# Altium footprint library External_Target_SWD.PcbLib: 1 footprints
Each footprint in its own frame and in the unit in brackets; x right, y up, seen from the top. Pads: shape width x height; smd on the part's side, far side on the other; paste and mask are expansions set on the pad; w line width, h text height; cw(c..) or ccw(c..) is an arc to the next point about the centre after c.
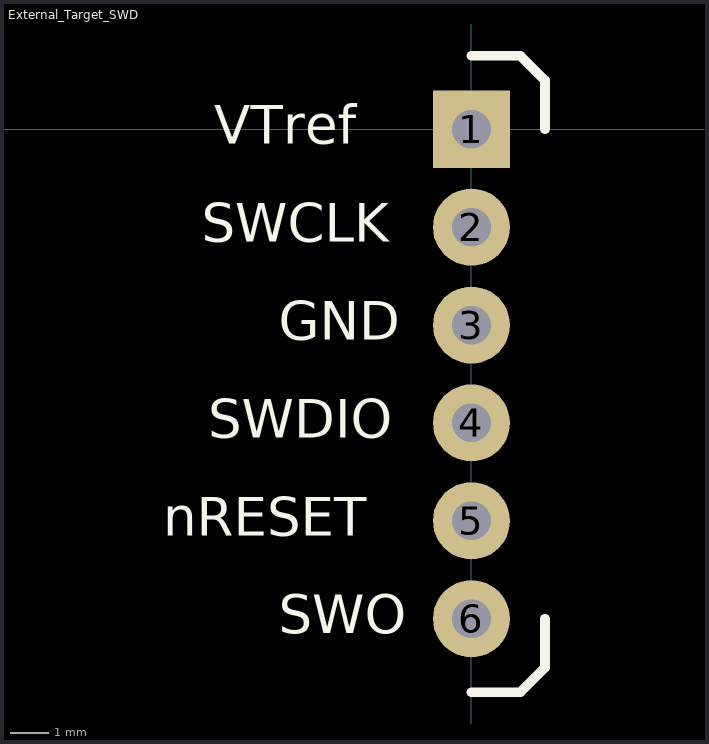
[diagram p0: the footprint, top view; thin cyan lines are the x and y axes]

## External_Target_SWD [mm]
pads (6):
  rect 2x2 hole 1: 1(0,0)
  round 2 hole 1: 2(0,-2.54) 3(0,-5.08) 4(0,-7.62) 5(0,-10.16) 6(0,-12.7)
Top Overlay:
  lines w0.254: 0,-14.605 1.27,-14.605 1.905,-13.97 1.905,-12.7 ; 0,1.905 1.27,1.905 1.905,1.27 1.905,0
  text "SWO" at -5.002,-13.081 h1
  text "SWCLK" at -7.001,-2.921 h1
  text "SWDIO" at -6.835,-8.001 h1
  text "nRESET" at -8.001,-10.541 h1
  text "VTref" at -6.668,-0.381 h1
  text "GND" at -5.002,-5.461 h1